# EAGLE library part 2X3 (library con-amp-micro-mate-n-lock)
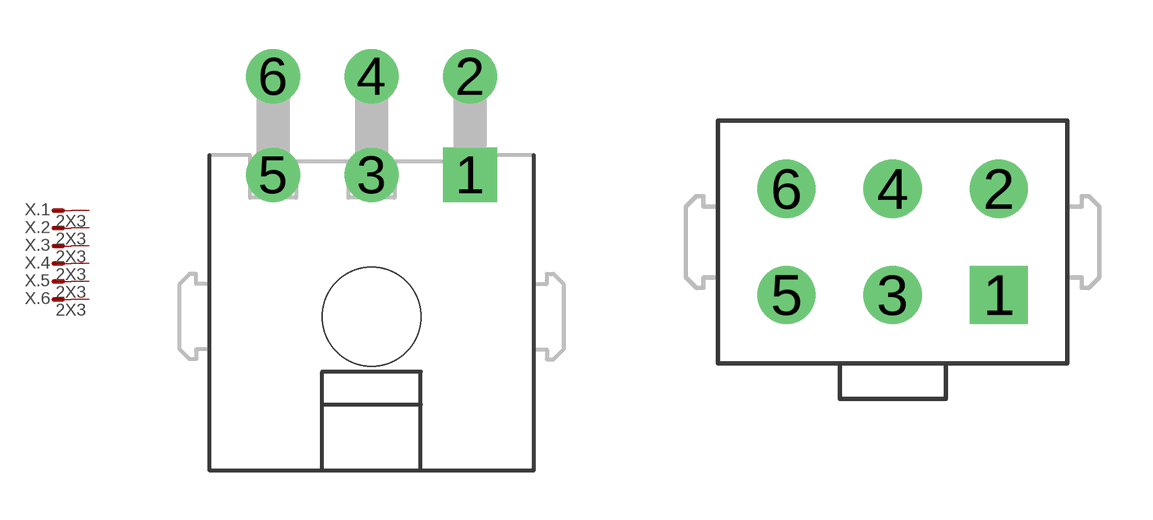
[diagram p7: symbol with the pads of 3-794618-6; footprints 3-794618-6, 3-794630-6]

Designator prefix X; gates .1=M .2=M .3=M .4=M .5=M .6=M

## 2X3-A  [3-794618-6]
1  .1:S  pas
2  .2:S  pas
3  .3:S  pas
4  .4:S  pas
5  .5:S  pas
6  .6:S  pas

## 2X3-B  [3-794630-6]
Pads as for 3-794618-6

## 2X3-C  [3-794677-6]
Pads as for 3-794618-6

## 2X3-D  [3-794680-6]
Pads as for 3-794618-6

## Footprint 3-794618-6 (pad centres in mm)
drill 1.1 square: 1 0,0
drill 1.1 round: 2 0,3; 3 -3,0; 4 -3,3; 5 -6,0; 6 -6,3
hole 3 at -3,-4.32

## Footprint 3-794630-6 (pad centres in mm)
drill 1.1 square: 1 0,0
drill 1.1 round: 2 0,3; 3 -3,0; 4 -3,3; 5 -6,0; 6 -6,3

## Footprint 3-794677-6 (pad centres in mm)
drill 1.1 square: 1 0,0
drill 1.1 round: 2 0,3; 3 -3,0; 4 -3,3; 5 -6,0; 6 -6,3
hole 2.4 at 2.15,-4.32
hole 2.4 at -8.15,-4.32

## Footprint 3-794680-6 (pad centres in mm)
drill 1.1 square: 1 0,0
drill 1.1 round: 2 0,3; 3 -3,0; 4 -3,3; 5 -6,0; 6 -6,3
hole 2.4 at -8.15,1.5
hole 2.4 at 2.15,1.5